# Altium schematic symbol library Led0805.SchLib: 1 symbol
Pins are listed as number, name and electrical type; pins without a type are passive.

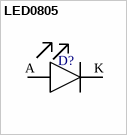
[diagram p0: symbol LED0805]

## LED0805
designator D?  (value not drawn)
Manufacturer: Würth Elektronik; Manufacturer Part Number: 150080BS75000; Supplier: DigiKey; Supplier Part Number: 732-4982-2-ND
footprint Led
pins: A, K